# Altium footprint library PCBLIB_V_and_curr.PcbLib: 12 footprints
Each footprint in its own frame and in the unit in brackets; x right, y up, seen from the top. Pads: shape width x height; smd on the part's side, far side on the other; paste and mask are expansions set on the pad; w line width, h text height; cw(c..) or ccw(c..) is an arc to the next point about the centre after c.
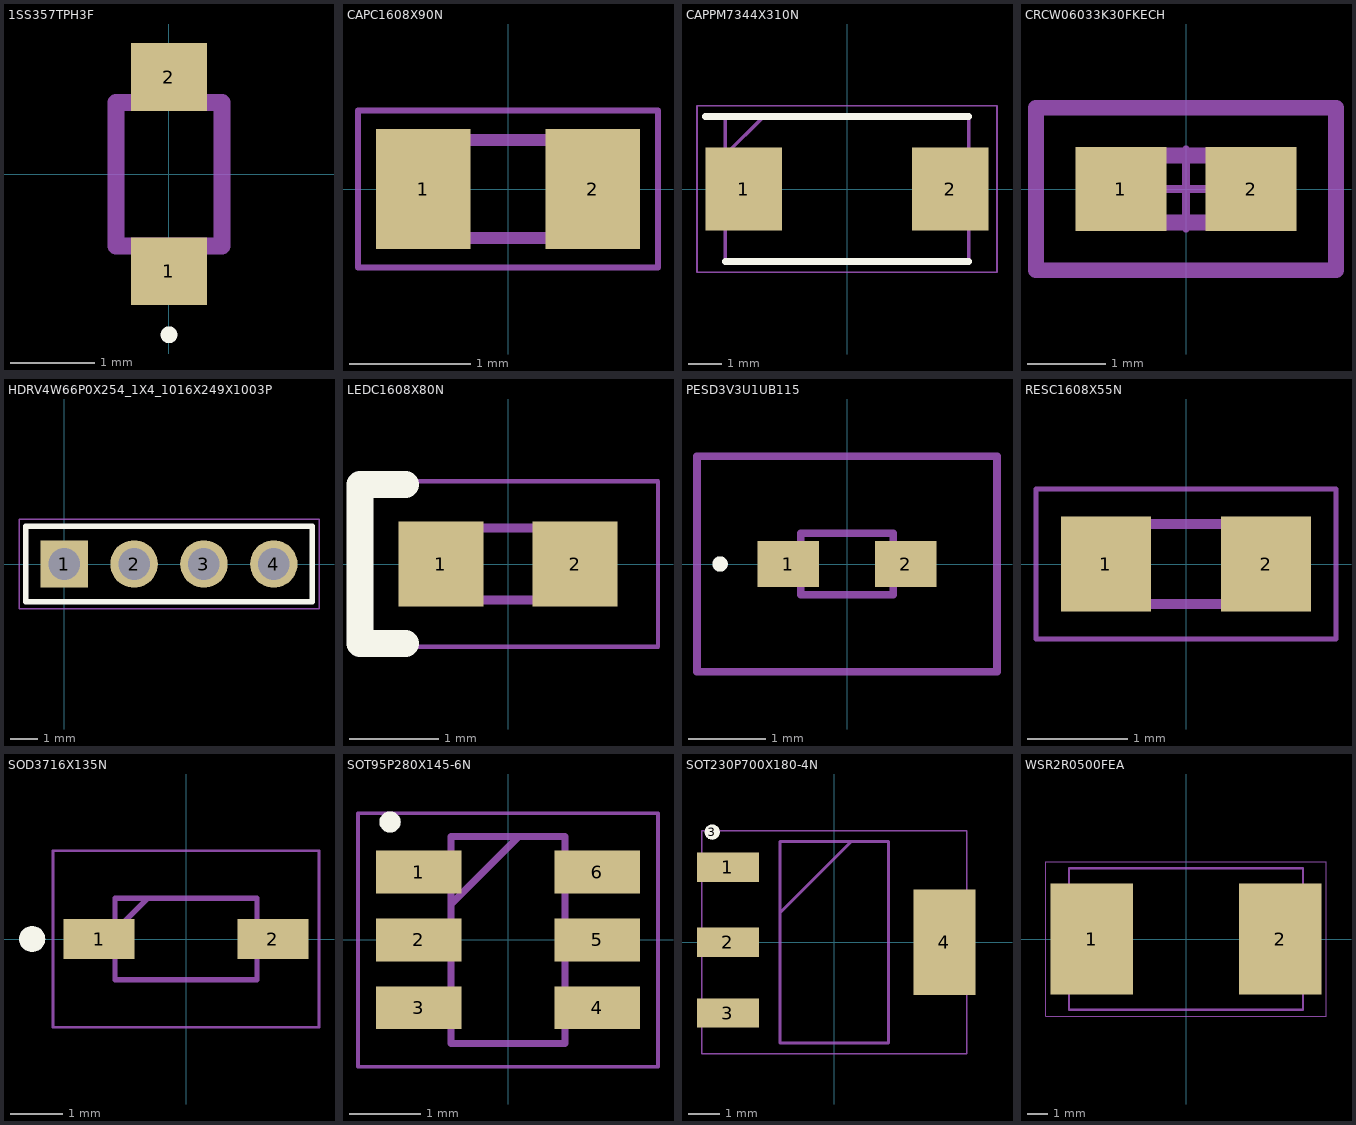
[diagram p0: the footprints below, top view; thin cyan lines are the x and y axes]

## 1SS357TPH3F [mm]
pads (2):
  rect 0.9x0.8 smd: 1(0,-1.15) 2(0,1.15)
Top Overlay:
  lines w0.1: -0.05,-1.9 ccw(c0,-1.9) 0.05,-1.9 ccw(c0,-1.9) -0.05,-1.9
Top 3D Body:
  lines w0.2: -0.625,-0.85 -0.625,0.85 0.625,0.85 0.625,-0.85 -0.625,-0.85
3D body "CUS521,H3F.stp": height 0.9, standoff -0.05, extent -0.625,-1.25 0.625,1.25

## CAPC1608X90N [mm]
pads (2):
  rect 0.78x0.99 smd: 1(-0.7,0) 2(0.7,0)
Top 3D Body:
  lines w0.1: -0.8,-0.405 0.8,-0.405 0.8,0.405 -0.8,0.405 -0.8,-0.405
Top Courtyard:
  lines w0.05: -1.24,-0.65 1.24,-0.65 1.24,0.65 -1.24,0.65 -1.24,-0.65
3D body "0603YC104K4T4A.stp": height 0.9, standoff 0, extent -0.8,-0.405 0.8,0.405

## CAPPM7344X310N [mm]
pads (2):
  rect 2.3x2.5 smd: 1(-3.1,0) 2(3.1,0)
Top Overlay:
  lines w0.2: -4.25,2.175 3.65,2.175 ; -3.65,-2.175 3.65,-2.175
Top 3D Body:
  lines w0.1: -3.65,1.025 -2.5,2.175 ; -3.65,-2.175 -3.65,2.175 3.65,2.175 3.65,-2.175 -3.65,-2.175
Top Courtyard:
  lines w0.05: -4.5,-2.5 -4.5,2.5 4.5,2.5 4.5,-2.5 -4.5,-2.5
3D body "TAJD107K016SNJV.stp": height 3.1, standoff 0, extent -3.65,-2.175 3.65,2.175

## CRCW06033K30FKECH [mm] "resistor 3.3k 0604 1% 330mW"
pads (2):
  rect 1.158x1.062 smd paste+0 mask+0: 1(-0.827,0) 2(0.827,0)
Top Assembly:
  lines w0.2: -1.906,-1.031 -1.906,1.031 1.906,1.031 1.906,-1.031 -1.906,-1.031
  text ".Designator" at -1.905,1.255 h0.6
Top 3D Body:
  lines w0.2: -0.8,-0.425 -0.8,0.425 0.8,0.425 0.8,-0.425 -0.8,-0.425
Top Courtyard:
  lines w0.2: -1.906,-1.031 -1.906,1.031 1.906,1.031 1.906,-1.031 -1.906,-1.031
Top Component Center:
  lines w0.1: -0.5,0 0.5,0 ; 0,-0.5 0,0.5
3D body "Res_Vishay_CRCW06031K00FKEAHP_eec.STEP": height 0.25, standoff 0, extent -1.906,-1.031 1.906,1.031

## HDRV4W66P0X254_1X4_1016X249X1003P [mm]
pads (4):
  rect 1.725x1.725 hole 1.15: 1(0,0)
  round 1.725 hole 1.15: 2(2.54,0) 3(5.08,0) 4(7.62,0)
Top Overlay:
  lines w0.2: -1.397,1.37 9.015,1.37 9.015,-1.37 -1.395,-1.37 -1.395,1.37
Top 3D Body:
  lines w0.1: -1.395,-1.37 9.015,-1.37 9.015,1.37 -1.395,1.37 -1.395,-1.37
Top Courtyard:
  lines w0.05: -1.645,-1.62 9.265,-1.62 9.265,1.62 -1.645,1.62 -1.645,-1.62
3D body "22-28-4042.stp": height 9.78, standoff -3.05, extent -1.27,-1.245 8.89,1.245

## LEDC1608X80N [mm]
pads (2):
  rect 0.95x0.95 smd: 1(-0.75,0) 2(0.75,0)
Top Overlay:
  lines w0.3: -1.143,-0.889 -1.651,-0.889 -1.651,0.889 -1.143,0.889
Top 3D Body:
  lines w0.1: -0.8,0.133 -0.533,0.4 ; -0.8,-0.4 0.8,-0.4 0.8,0.4 -0.8,0.4 -0.8,-0.4
Top Courtyard:
  lines w0.05: -1.675,-0.925 1.675,-0.925 1.675,0.925 -1.675,0.925 -1.675,-0.925
3D body "150060VS75000.stp": height 0.7, standoff 0, extent -0.83,-0.4 0.77,0.4

## PESD3V3U1UB115 [mm]
pads (2):
  rect 0.8x0.6 smd: 1(-0.762,0) 2(0.762,0)
Top Overlay:
  lines w0.1: -1.7,0 cw(c-1.65,0) -1.6,0 cw(c-1.65,0) -1.7,0
Top 3D Body:
  lines w0.1: -0.6,-0.4 -0.6,0.4 0.6,0.4 0.6,-0.4 -0.6,-0.4
Top Courtyard:
  lines w0.1: -1.95,-1.4 -1.95,1.4 1.95,1.4 1.95,-1.4 -1.95,-1.4
3D body "PESD3V3U1UB,115.stp": height 0.61, standoff 0, extent -0.801,-0.415 0.799,0.415

## RESC1608X55N [mm]
pads (2):
  rect 0.9x0.95 smd: 1(-0.8,0) 2(0.8,0)
Top 3D Body:
  lines w0.1: -0.8,-0.4 0.8,-0.4 0.8,0.4 -0.8,0.4 -0.8,-0.4
Top Courtyard:
  lines w0.05: -1.5,-0.75 1.5,-0.75 1.5,0.75 -1.5,0.75 -1.5,-0.75
3D body "KTR03EZPF10R0.stp": height 0.55, standoff 0, extent -0.8,-0.4 0.8,0.4

## SOD3716X135N [mm]
pads (3):
  rect 1.35x0.75 smd: 1(-1.651,0) 2(1.651,0)
  round 0.5 on Top Overlay: ""(-2.921,0)
Top 3D Body:
  lines w0.1: -1.35,0.15 -0.725,0.775 ; -1.35,-0.775 1.35,-0.775 1.35,0.775 -1.35,0.775 -1.35,-0.775
Top Courtyard:
  lines w0.05: -2.525,-1.675 2.525,-1.675 2.525,1.675 -2.525,1.675 -2.525,-1.675
3D body "1N4148W-G3-08.stp": height 1.35, standoff 0, extent -1.85,-0.775 1.85,0.775

## SOT95P280X145-6N [mm]
pads (7):
  rect 1.2x0.6 smd: 1(-1.25,0.95) 2(-1.25,0) 3(-1.25,-0.95) 4(1.25,-0.95) 5(1.25,0) 6(1.25,0.95)
  round 0.3 on Top Overlay: ""(-1.651,1.651)
Top 3D Body:
  lines w0.1: -0.8,0.5 0.15,1.45 ; -0.8,-1.45 -0.8,1.45 0.8,1.45 0.8,-1.45 -0.8,-1.45
Top Courtyard:
  lines w0.05: -2.1,-1.775 -2.1,1.775 2.1,1.775 2.1,-1.775 -2.1,-1.775
3D body "LMR50410Y3FQDBVRQ1.stp": height 1.2, standoff 0, extent -1.4,-1.45 1.4,1.45

## SOT230P700X180-4N [mm]
pads (5):
  rect 2x0.95 smd: 1(-3.429,2.413) 2(-3.429,0) 3(-3.429,-2.286)
  round 0.5 on Top Overlay: 3(-3.937,3.556)
  rect 2x3.4 smd: 4(3.556,0)
Top 3D Body:
  lines w0.1: -1.75,0.95 0.55,3.25 ; -1.75,-3.25 -1.75,3.25 1.75,3.25 1.75,-3.25 -1.75,-3.25
Top Courtyard:
  lines w0.05: -4.275,-3.6 -4.275,3.6 4.275,3.6 4.275,-3.6 -4.275,-3.6
3D body "LM1117IMP-3.3_NOPB.stp": height 1.68, standoff 0, extent -3.5,-3.25 3.5,3.25

## WSR2R0500FEA [mm]
pads (2):
  rect 4.05x5.5 smd: 1(-4.65,0) 2(4.65,0)
Top 3D Body:
  lines w0.1: -5.78,-3.49 5.78,-3.49 5.78,3.49 -5.78,3.49 -5.78,-3.49
Top Courtyard:
  lines w0.05: -6.925,-3.804 6.925,-3.804 6.925,3.804 -6.925,3.804 -6.925,-3.804
3D body "WSR2R0500FEA.stp": height 2.41, standoff 0, extent -5.78,-3.49 5.78,3.49